# EAGLE library part ADP7156ACPZ-3.3-R7 (library QUAD_ICs)
LDO 3.3V Analog 1.2 A, Ultralow Noise, High PSRR, RF Linear Regulator
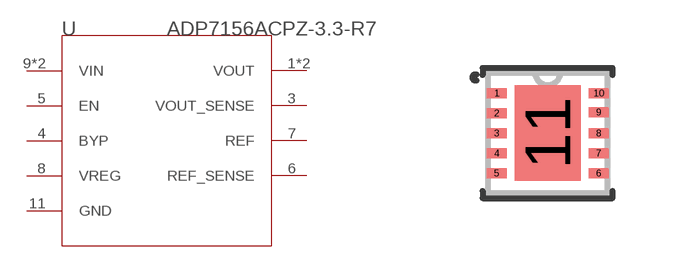
[diagram p9: symbol with the pads of CP_10_9_ADI-L; footprint CP_10_9_ADI-L]

Designator prefix U

## ADP7156ACPZ-3.3-R7CP_10_9_ADI-L (BUILT_BY: Analog Devices Inc.; MANUFACTURER_PART_NUMBER: ADP7156ACPZ-2.5-R7; SOURCELIBRARY: Analog_2017-10-24; VENDOR: Analog Devices Inc)  [CP_10_9_ADI-L]
1  VOUT  pas
2  VOUT  pas
3  VOUT_SENSE  pas
4  BYP  pas
5  EN  pas
6  REF_SENSE  pas
7  REF  pas
8  VREG  pas
9  VIN  pas
10  VIN  pas
11  GND  sup

## Footprint CP_10_9_ADI-L (pad centres in mm)
smd 0.5 x 0.25: 1 -1.275,1; 2 -1.275,0.5; 3 -1.275,0; 4 -1.275,-0.5; 5 -1.275,-1; 6 1.275,-1; 7 1.275,-0.5; 8 1.275,0; 9 1.275,0.525; 10 1.275,1
smd 1.64 x 2.38: 11 0,0